# EAGLE library part ESP32-D0WD (library IoTMakers)
ESP32 is a single 2.4 GHz Wi-Fi-and-Bluetooth combo chip designed with the TSMC ultra-low-power 40 nm technology. It is designed to achieve the best power and RF performance, showing robustness, versatility and reliability in a wide variety of applications and power scenarios.
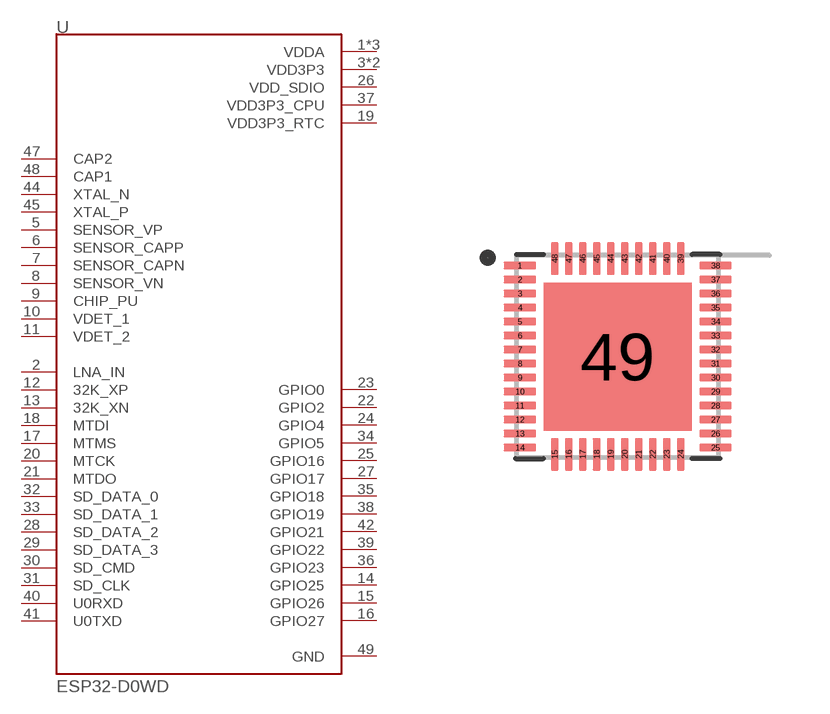
[diagram p14: symbol with the pads of QFN35P500X500X90-49N; footprint QFN35P500X500X90-49N]

Designator prefix U

## ESP32-D0WD (AVAILABILITY: Good; DESCRIPTION: Smd Ic Esp32-D0wd, Dual Core Mcu; MF: Espressif Systems; MP: ESP32-D0WD; PACKAGE: VFQFN-48 Espressif Systems; PRICE: 3.92 USD)  [QFN35P500X500X90-49N]
1  VDDA  pwr
2  LNA_IN
3  VDD3P3  pwr
4  VDD3P3  pwr
5  SENSOR_VP  in
6  SENSOR_CAPP  in
7  SENSOR_CAPN  in
8  SENSOR_VN  in
9  CHIP_PU  in
10  VDET_1  in
11  VDET_2  in
12  32K_XP
13  32K_XN
14  GPIO25
15  GPIO26
16  GPIO27
17  MTMS
18  MTDI
19  VDD3P3_RTC  pwr
20  MTCK
21  MTDO
22  GPIO2
23  GPIO0
24  GPIO4
25  GPIO16
26  VDD_SDIO  pwr
27  GPIO17
28  SD_DATA_2
29  SD_DATA_3
30  SD_CMD
31  SD_CLK
32  SD_DATA_0
33  SD_DATA_1
34  GPIO5
35  GPIO18
36  GPIO23
37  VDD3P3_CPU  pwr
38  GPIO19
39  GPIO22
40  U0RXD
41  U0TXD
42  GPIO21
43  VDDA  pwr
44  XTAL_N  out
45  XTAL_P  in
46  VDDA  pwr
47  CAP2  in
48  CAP1  in
49  GND  pwr

## Footprint QFN35P500X500X90-49N (pad centres in mm)
smd 0.81 x 0.193: 1 -2.445,2.275; 2 -2.445,1.925; 3 -2.445,1.575; 4 -2.445,1.225; 5 -2.445,0.875; 6 -2.445,0.525; 7 -2.445,0.175; 8 -2.445,-0.175; 9 -2.445,-0.525; 10 -2.445,-0.875; 11 -2.445,-1.225; 12 -2.445,-1.575; 13 -2.445,-1.925; 14 -2.445,-2.275; 25 2.445,-2.275; 26 2.445,-1.925; 27 2.445,-1.575; 28 2.445,-1.225; 29 2.445,-0.875; 30 2.445,-0.525; 31 2.445,-0.175; 32 2.445,0.175; 33 2.445,0.525; 34 2.445,0.875; 35 2.445,1.225; 36 2.445,1.575; 37 2.445,1.925; 38 2.445,2.275
smd 0.193 x 0.81: 15 -1.575,-2.445; 16 -1.225,-2.445; 17 -0.875,-2.445; 19 -0.175,-2.445; 20 0.175,-2.445; 21 0.525,-2.445; 22 0.875,-2.445; 23 1.225,-2.445; 24 1.575,-2.445; 39 1.575,2.445; 40 1.225,2.445; 41 0.875,2.445; 42 0.525,2.445; 43 0.175,2.445; 44 -0.175,2.445; 45 -0.525,2.445; 46 -0.875,2.445; 47 -1.225,2.445; 48 -1.575,2.445
smd 0.2 x 0.81: 18 -0.525,-2.445
smd 3.7 x 3.7: 49 0,0